# Altium schematic symbol library CGA5L1X7R2A475K160AC.SchLib: 1 symbol
Pins are listed as number, name and electrical type; pins without a type are passive.

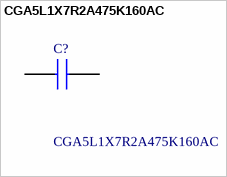
[diagram p0: symbol CGA5L1X7R2A475K160AC]

## CGA5L1X7R2A475K160AC
designator C?
Multilayer Ceramic Capacitors MLCC - SMD/SMT 1206 100VDC 4.7uF 10% 1.6mm AEC-Q200; Manufacturer_Name: TDK; Geometry.Height: 1.9mm; Mouser Part Number: 810-CGA5L7R2A475K160; Mouser Price/Stock: https://www.mouser.co.uk/ProductDetail/TDK/CGA5L1X7R2A475K160AC?qs=17ckDYBRdelJ4ksCO5KBeA%3D%3D; Manufacturer_Part_Number: CGA5L1X7R2A475K160AC; Datasheet Link: *
footprint CAPC3216X190N
pins: 1, 2